# EAGLE library part ADF4118BRUZ (library MSA_lib)
RF PLL Frequency Synthesizers
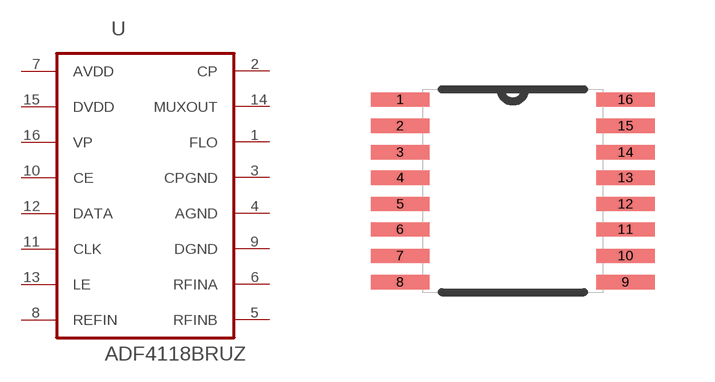
[diagram p15: symbol with the pads of SOIC65P640X120-16N; footprint SOIC65P640X120-16N]

Designator prefix U

## ADF4118BRUZ (MPN: ADF4118BRUZ; OC_FARNELL: 2377107; OC_NEWARK: 59K1043; PACKAGE: TSSOP-16; SUPPLIER: ANALOG DEVICES)  [SOIC65P640X120-16N]
1  FLO  out
2  CP  out
3  CPGND  pas
4  AGND  pas
5  RFINB  in
6  RFINA  in
7  AVDD  pwr
8  REFIN  in
9  DGND  pas
10  CE  in
11  CLK  in
12  DATA  in
13  LE  in
14  MUXOUT  out
15  DVDD  pwr
16  VP  pwr

## Footprint SOIC65P640X120-16N (pad centres in mm)
smd 1.473 x 0.356: 1 -2.819,2.286; 2 -2.819,1.626; 3 -2.819,0.965; 4 -2.819,0.33; 5 -2.819,-0.33; 6 -2.819,-0.965; 7 -2.819,-1.626; 8 -2.819,-2.286; 9 2.819,-2.286; 10 2.819,-1.626; 11 2.819,-0.965; 12 2.819,-0.33; 13 2.819,0.33; 14 2.819,0.965; 15 2.819,1.626; 16 2.819,2.286